# Altium schematic symbol library Test point dual.Schlib: 1 symbol
Pins are listed as number, name and electrical type; pins without a type are passive.

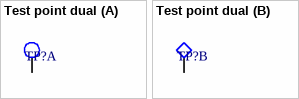
[diagram p0: symbol Test point dual]

## Test point dual
designator TP?  (value not drawn)
=description
part A pins: 1
part B pins: 2